# Altium integrated library L_13x13mm.IntLib: 1 symbol
Pins are listed as number, name and electrical type; pins without a type are passive.

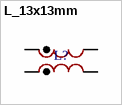
[diagram p0: symbol L_13x13mm]

## L_13x13mm
designator L?
footprint L_13x13mm
pins: 1, 2, 3, 4